# Altium schematic symbol library TAC9535.SchLib: 1 symbol
Pins are listed as number, name and electrical type; pins without a type are passive.

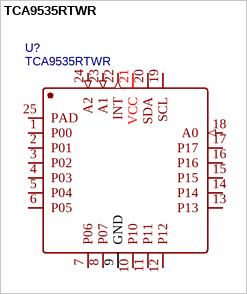
[diagram p0: symbol TCA9535RTWR]

## TCA9535RTWR
designator U?
具有中断和配置寄存器的 16 位 1.65V 至 5.5V I2C/SMBus I/O 扩展器; Manufacturer: TI(德州仪器); Supplier: LCSC; Manufacturer Part: TCA9535RTWR; Supplier Part: C129354; JLCPCB Part Class: Extended Part; spicePre: U; spiceSymbolName: TCA9535RTWR
footprint QFN-24_L4.0-W4.0-P0.50-BL-EP2.6
pins: 1 P00 (io), 2 P01 (io), 3 P02 (io), 4 P03 (io), 5 P04 (io), 6 P05 (io), 7 P06 (io), 8 P07 (io), 9 GND (power), 10 P10 (io), 11 P11 (io), 12 P12 (io), 13 P13 (io), 14 P14 (io), 15 P15 (io), 16 P16 (io), 17 P17 (io), 18 A0 (in), 19 SCL (io), 20 SDA (io), 21 VCC (power), 22 INT (out), 23 A1 (in), 24 A2 (in), 25 PAD